# EAGLE library part DUOSLOTADAPTER (library JX20_Conn)
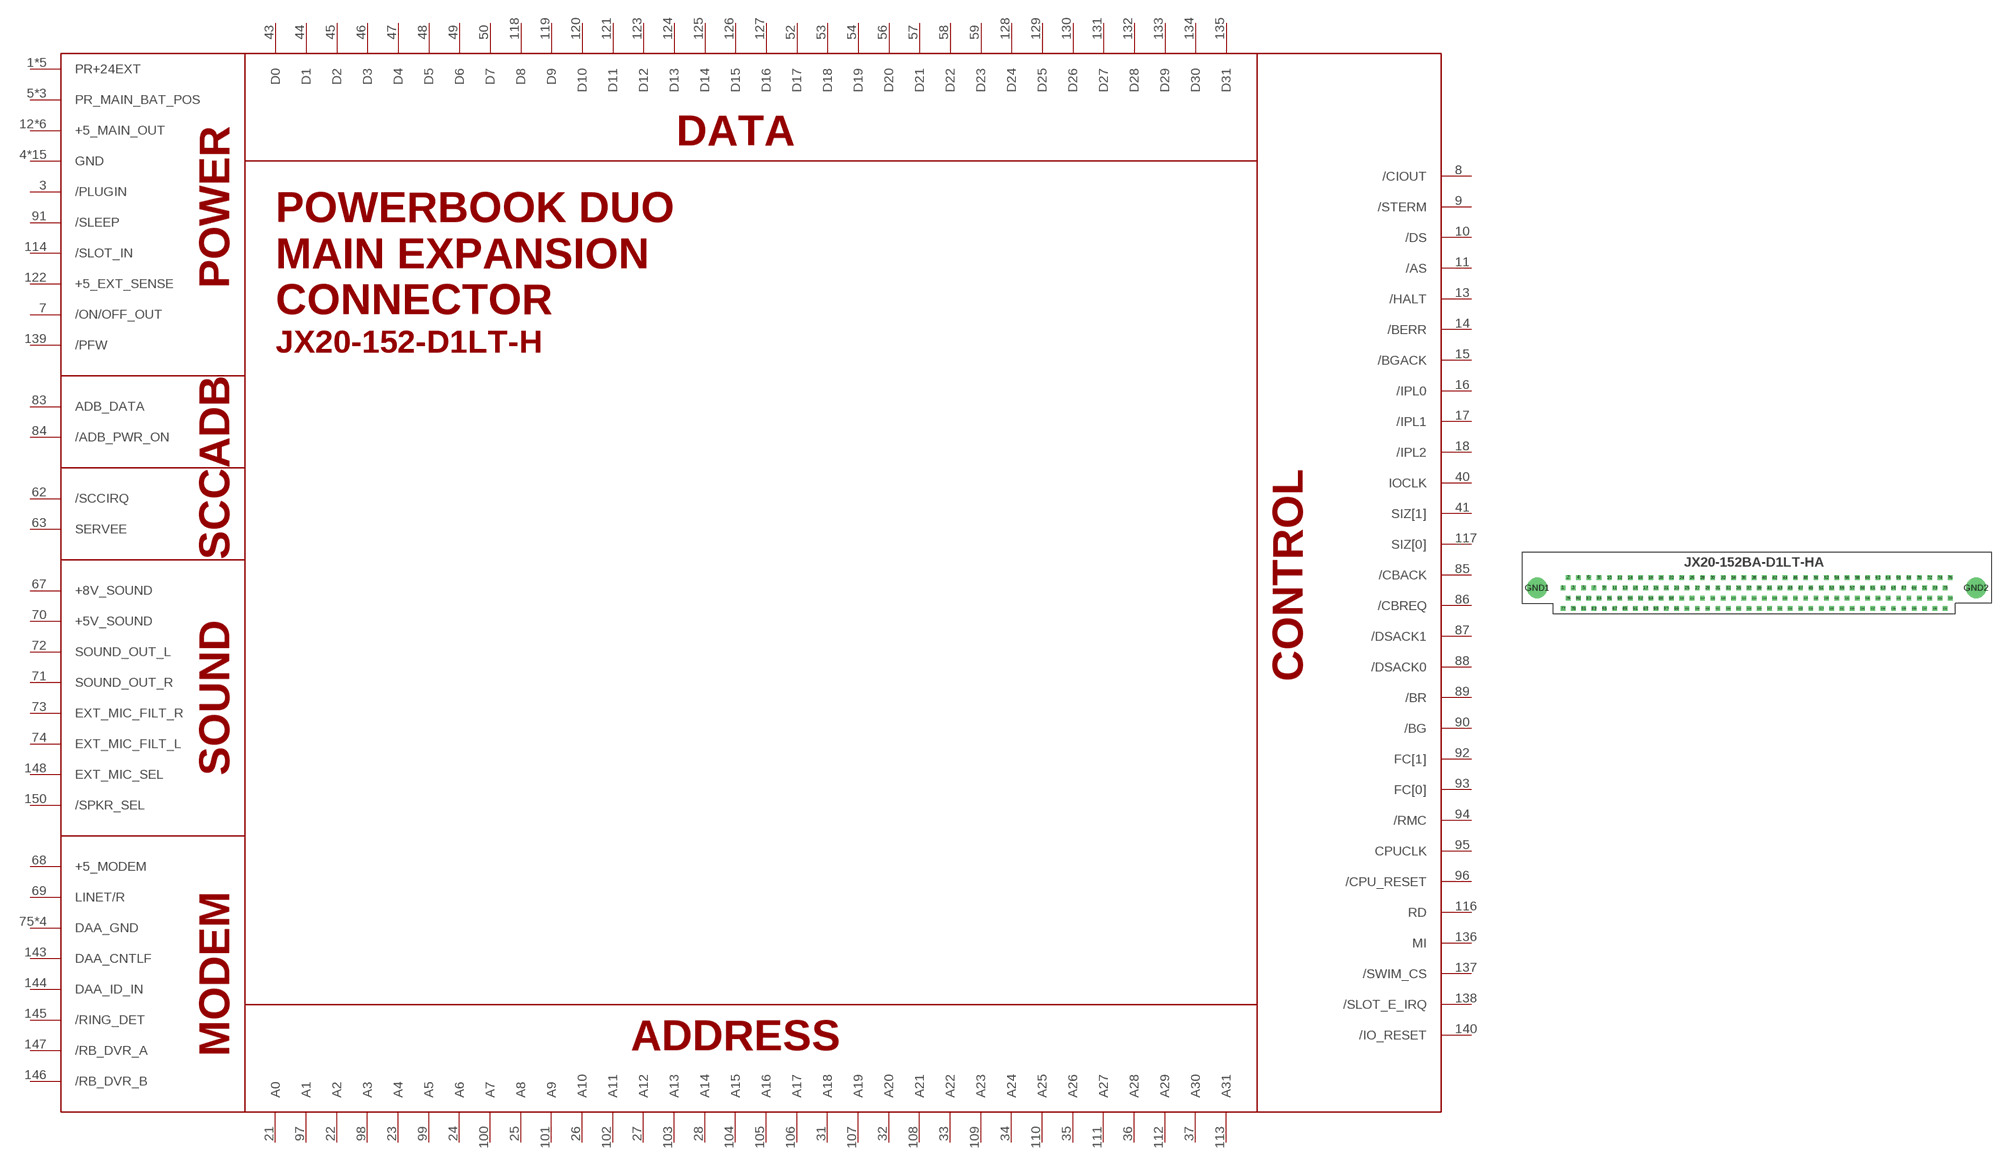
[diagram p0: symbol with the pads of JX20-152-D1LT; footprint JX20-152-D1LT]

Designator prefix -

## DUOSLOTADAPTER  [JX20-152-D1LT]
1  PR+24EXT
2  PR+24EXT
3  /PLUGIN
4  GND
5  PR_MAIN_BAT_POS
6  PR_MAIN_BAT_POS
7  /ON/OFF_OUT
8  /CIOUT
9  /STERM
10  /DS
11  /AS
12  +5_MAIN_OUT
13  /HALT
14  /BERR
15  /BGACK
16  /IPL0
17  /IPL1
18  /IPL2
19  GND
20  GND
21  A0
22  A2
23  A4
24  A6
25  A8
26  A10
27  A12
28  A14
29  +5_MAIN_OUT
30  GND
31  A18
32  A20
33  A22
34  A24
35  A26
36  A28
37  A30
38  GND
39  GND
40  IOCLK
41  SIZ[1]
42  +5_MAIN_OUT
43  D0
44  D1
45  D2
46  D3
47  D4
48  D5
49  D6
50  D7
51  GND
52  D17
53  D18
54  D19
55  +5_MAIN_OUT
56  D20
57  D21
58  D22
59  D23
60  +5_MAIN_OUT
61  GND
62  /SCCIRQ
63  SERVEE
64  +5_MAIN_OUT
65  GND
66  GND
67  +8V_SOUND
68  +5_MODEM
69  LINET/R
70  +5V_SOUND
71  SOUND_OUT_R
72  SOUND_OUT_L
73  EXT_MIC_FILT_R
74  EXT_MIC_FILT_L
75  DAA_GND
76  DAA_GND
77  PR+24EXT
78  PR+24EXT
79  PR+24EXT
80  GND
81  GND
82  PR_MAIN_BAT_POS
83  ADB_DATA
84  /ADB_PWR_ON
85  /CBACK
86  /CBREQ
87  /DSACK1
88  /DSACK0
89  /BR
90  /BG
91  /SLEEP
92  FC[1]
93  FC[0]
94  /RMC
95  CPUCLK
96  /CPU_RESET
97  A1
98  A3
99  A5
100  A7
101  A9
102  A11
103  A13
104  A15
105  A16
106  A17
107  A19
108  A21
109  A23
110  A25
111  A27
112  A29
113  A31
114  /SLOT_IN
115  GND
116  RD
117  SIZ[0]
118  D8
119  D9
120  D10
121  D11
122  +5_EXT_SENSE
123  D12
124  D13
125  D14
126  D15
127  D16
128  D24
129  D25
130  D26
131  D27
132  D28
133  D29
134  D30
135  D31
136  MI
137  /SWIM_CS
138  /SLOT_E_IRQ
139  /PFW
140  /IO_RESET
141  GND
142  GND
143  DAA_CNTLF
144  DAA_ID_IN
145  /RING_DET
146  /RB_DVR_B
147  /RB_DVR_A
148  EXT_MIC_SEL
150  /SPKR_SEL
151  DAA_GND
152  DAA_GND

## Footprint JX20-152-D1LT (pad centres in mm)
drill 0.35 pad 0.61 square: 1 0,3.88; 2 0.97,5.82; 3 1.94,3.88; 4 2.91,5.82; 5 3.88,3.88; 6 4.85,5.82; 7 5.82,3.88; 8 6.79,5.82; 9 7.76,3.88; 10 8.73,5.82; 11 9.7,3.88; 12 10.67,5.82; 13 11.64,3.88; 14 12.61,5.82; 15 13.58,3.88; 16 14.55,5.82; 17 15.52,3.88; 18 16.49,5.82; 19 17.46,3.88; 20 18.43,5.82; 21 19.4,3.88; 22 20.37,5.82; 23 21.34,3.88; 24 22.31,5.82; 25 23.28,3.88; 26 24.25,5.82; 27 25.22,3.88; 28 26.19,5.82; 29 27.16,3.88; 30 28.13,5.82; 31 29.1,3.88; 32 30.07,5.82; 33 31.04,3.88; 34 32.01,5.82; 35 32.98,3.88; 36 33.95,5.82; 37 34.92,3.88; 38 35.89,5.82; 39 36.86,3.88; 40 37.83,5.82; 41 38.8,3.88; 42 39.77,5.82; 43 40.74,3.88; 44 41.71,5.82; 45 42.68,3.88; 46 43.65,5.82; 47 44.62,3.88; 48 45.59,5.82; 49 46.56,3.88; 50 47.53,5.82; 51 48.5,3.88; 52 49.47,5.82; 53 50.44,3.88; 54 51.41,5.82; 55 52.38,3.88; 56 53.35,5.82; 57 54.32,3.88; 58 55.29,5.82; 59 56.26,3.88; 60 57.23,5.82; 61 58.2,3.88; 62 59.17,5.82; 63 60.14,3.88; 64 61.11,5.82; 65 62.08,3.88; 66 63.05,5.82; 67 64.02,3.88; 68 64.99,5.82; 69 65.96,3.88; 70 66.93,5.82; 71 67.9,3.88; 72 68.87,5.82; 73 69.84,3.88; 74 70.81,5.82; 75 71.78,3.88; 76 72.75,5.82; 77 0,0; 78 0.97,1.94; 79 1.94,0; 80 2.91,1.94; 81 3.88,0; 82 4.85,1.94; 83 5.82,0; 84 6.79,1.94; 85 7.76,0; 86 8.73,1.94; 87 9.7,0; 88 10.67,1.94; 89 11.64,0; 90 12.61,1.94; 91 13.58,0; 92 14.55,1.94; 93 15.52,0; 94 16.49,1.94; 95 17.46,0; 96 18.43,1.94; 97 19.4,0; 98 20.37,1.94; 99 21.34,0; 100 22.31,1.94; 101 23.28,0; 102 24.25,1.94; 103 25.22,0; 104 26.19,1.94; 105 27.16,0; 106 28.13,1.94; 107 29.1,0; 108 30.07,1.94; 109 31.04,0; 110 32.01,1.94; 111 32.98,0; 112 33.95,1.94; 113 34.92,0; 114 35.89,1.94; 115 36.86,0; 116 37.83,1.94; 117 38.8,0; 118 39.77,1.94; 119 40.74,0; 120 41.71,1.94; 121 42.68,0; 122 43.65,1.94; 123 44.62,0; 124 45.59,1.94; 125 46.56,0; 126 47.53,1.94; 127 48.5,0; 128 49.47,1.94; 129 50.44,0; 130 51.41,1.94; 131 52.38,0; 132 53.35,1.94; 133 54.32,0; 134 55.29,1.94; 135 56.26,0; 136 57.23,1.94; 137 58.2,0; 138 59.17,1.94; 139 60.14,0; 140 61.11,1.94; 141 62.08,0; 142 63.05,1.94; 143 64.02,0; 144 64.99,1.94; 145 65.96,0; 146 66.93,1.94; 147 67.9,0; 148 68.87,1.94; 149 69.84,0; 150 70.81,1.94; 151 71.78,0; 152 72.75,1.94
drill 2.6 pad 3.81: GND1 -4.85,3.88; GND2 77.6,3.88